# EAGLE library part OPA2674 (library Jim)
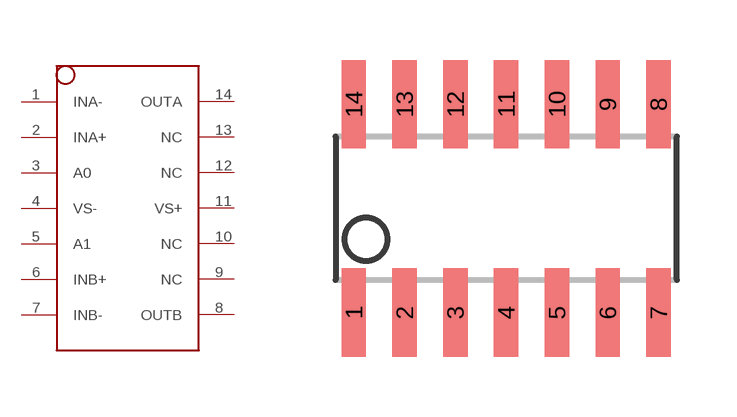
[diagram p10: symbol with the pads of SO14; footprint SO14]

Designator prefix -

## OPA2674  [SO14]
1  INA-  in
2  INA+  in
3  A0  in
4  VS-  pwr
5  A1  in
6  INB+  in
7  INB-  in
8  OUTB  out
9  NC  nc
10  NC  nc
11  VS+  pwr
12  NC  nc
13  NC  nc
14  OUTA  out

## Footprint SO14 (pad centres in mm)
Small Outline Package
smd 0.61 x 2.21: 1 -3.81,-2.603; 2 -2.54,-2.603; 3 -1.27,-2.603; 4 0,-2.603; 5 1.27,-2.603; 6 2.54,-2.603; 7 3.81,-2.603; 8 3.81,2.603; 9 2.54,2.603; 10 1.27,2.603; 11 0,2.603; 12 -1.27,2.603; 13 -2.54,2.603; 14 -3.81,2.603